# EAGLE library part ADAFRUIT_2.8_TFT_BREAKOUT_V2 (library etch-a-sketch)
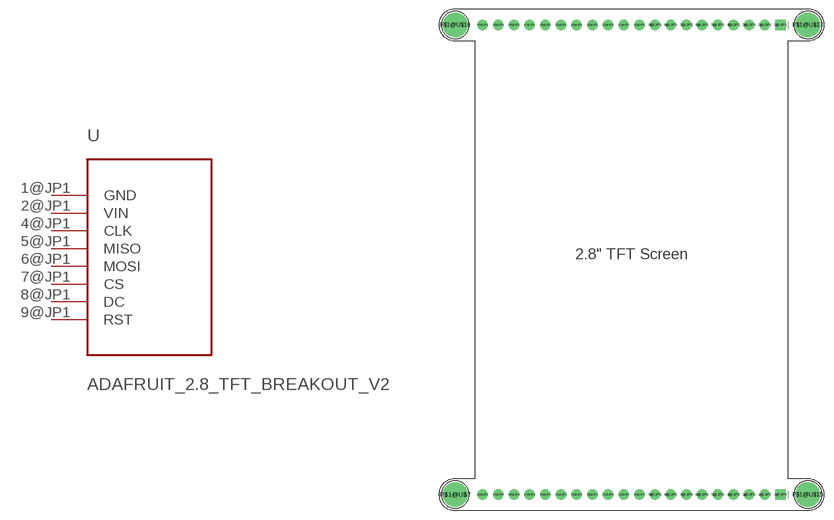
[diagram p0: symbol with the pads of ADAFRUIT_2.8_TFT_BREAKOUT_V2; footprint ADAFRUIT_2.8_TFT_BREAKOUT_V2]

Designator prefix U

## ADAFRUIT_2.8_TFT_BREAKOUT_V2  [ADAFRUIT_2.8_TFT_BREAKOUT_V2]
1@JP1  GND
2@JP1  VIN
4@JP1  CLK
5@JP1  MISO
6@JP1  MOSI
7@JP1  CS
8@JP1  DC
9@JP1  RST

## Footprint ADAFRUIT_2.8_TFT_BREAKOUT_V2 (pad centres in mm)
Package generated by make-group2pac.ulp from: /Users/reneewrysinski/Downloads/Adafruit 2.8 TFT Breakout v2.brd at: 1/10/25 1:10 PM
drill 1 pad 1.676 square: 1@JP1 55.88,78.74; 1@JP2 55.88,2.54
drill 1 pad 1.676: 2@JP1 53.34,78.74; 2@JP2 53.34,2.54; 3@JP1 50.8,78.74; 3@JP2 50.8,2.54; 4@JP1 48.26,78.74; 4@JP2 48.26,2.54; 5@JP1 45.72,78.74; 5@JP2 45.72,2.54; 6@JP1 43.18,78.74; 6@JP2 43.18,2.54; 7@JP1 40.64,78.74; 7@JP2 40.64,2.54; 8@JP1 38.1,78.74; 8@JP2 38.1,2.54; 9@JP1 35.56,78.74; 9@JP2 35.56,2.54; 10@JP1 33.02,78.74; 10@JP2 33.02,2.54; 11@JP1 30.48,78.74; 11@JP2 30.48,2.54; 12@JP1 27.94,78.74; 12@JP2 27.94,2.54; 13@JP1 25.4,78.74; 13@JP2 25.4,2.54; 14@JP1 22.86,78.74; 14@JP2 22.86,2.54; 15@JP1 20.32,78.74; 15@JP2 20.32,2.54; 16@JP1 17.78,78.74; 16@JP2 17.78,2.54; 17@JP1 15.24,78.74; 17@JP2 15.24,2.54; 18@JP1 12.7,78.74; 18@JP2 12.7,2.54; 19@JP1 10.16,78.74; 19@JP2 10.16,2.54; 20@JP1 7.62,78.74; 20@JP2 7.62,2.54
drill 3 pad 3.6: P$1@U$7 3.175,2.54; P$1@U$15 60.325,2.54; P$1@U$16 3.175,78.74; P$1@U$17 60.325,78.74